# EAGLE library part BMI270 (library 2026-01-09_07-20-48_Library)
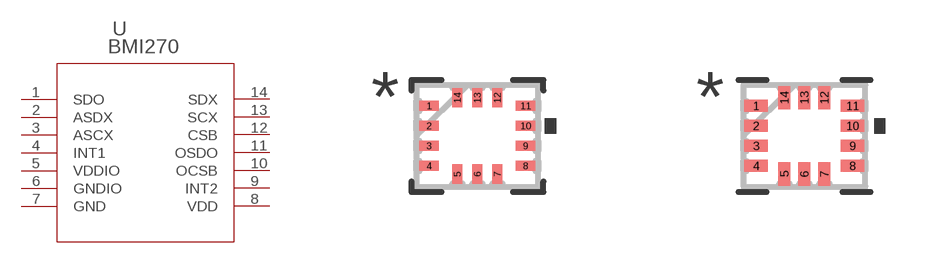
[diagram p0: symbol with the pads of BMI270_BOS; footprints BMI270_BOS, BMI270_BOS-M]

Designator prefix U

## BMI270BMI270_BOS (Copyright: Copyright (C) 2026 Ultra Librarian. All rights reserved.; Manufacturer_Name: Bosch Sensortec; Manufacturer_Part_Number: BMI270)  [BMI270_BOS]
1  SDO
2  ASDX
3  ASCX
4  INT1
5  VDDIO  pwr
6  GNDIO  pas
7  GND  pas
8  VDD  pwr
9  INT2
10  OCSB  in
11  OSDO  out
12  CSB  in
13  SCX  in
14  SDX

## BMI270BMI270_BOS-M (Copyright: Copyright (C) 2026 Ultra Librarian. All rights reserved.; Manufacturer_Name: Bosch Sensortec; Manufacturer_Part_Number: BMI270)  [BMI270_BOS-M]
Pads as for BMI270_BOS

## BMI270BMI270_BOS-L (Copyright: Copyright (C) 2026 Ultra Librarian. All rights reserved.; Manufacturer_Name: Bosch Sensortec; Manufacturer_Part_Number: BMI270)  [BMI270_BOS-L]
Pads as for BMI270_BOS

## Footprint BMI270_BOS (pad centres in mm)
smd 0.483 x 0.254: 1 -1.206,0.75; 2 -1.206,0.25; 3 -1.206,-0.25; 4 -1.206,-0.75; 8 1.206,-0.75; 9 1.206,-0.25; 10 1.206,0.25; 11 1.206,0.75
smd 0.254 x 0.483: 5 -0.5,-0.953; 6 0,-0.953; 7 0.5,-0.953; 12 0.5,0.953; 13 0,0.953; 14 -0.5,0.953

## Footprint BMI270_BOS-M (pad centres in mm)
smd 0.584 x 0.305: 1 -1.206,0.75; 2 -1.206,0.25; 3 -1.206,-0.25; 4 -1.206,-0.75; 8 1.206,-0.75; 9 1.206,-0.25; 10 1.206,0.25; 11 1.206,0.75
smd 0.305 x 0.584: 5 -0.5,-0.953; 6 0,-0.953; 7 0.5,-0.953; 12 0.5,0.953; 13 0,0.953; 14 -0.5,0.953

## Footprint BMI270_BOS-L (pad centres in mm)
smd 0.381 x 0.203: 1 -1.206,0.75; 2 -1.206,0.25; 3 -1.206,-0.25; 4 -1.206,-0.75; 8 1.206,-0.75; 9 1.206,-0.25; 10 1.206,0.25; 11 1.206,0.75
smd 0.203 x 0.381: 5 -0.5,-0.953; 6 0,-0.953; 7 0.5,-0.953; 12 0.5,0.953; 13 0,0.953; 14 -0.5,0.953